# Altium footprint library MomentaryButton.PcbLib: 1 footprints
Each footprint in its own frame and in the unit in brackets; x right, y up, seen from the top. Pads: shape width x height; smd on the part's side, far side on the other; paste and mask are expansions set on the pad; w line width, h text height; cw(c..) or ccw(c..) is an arc to the next point about the centre after c.
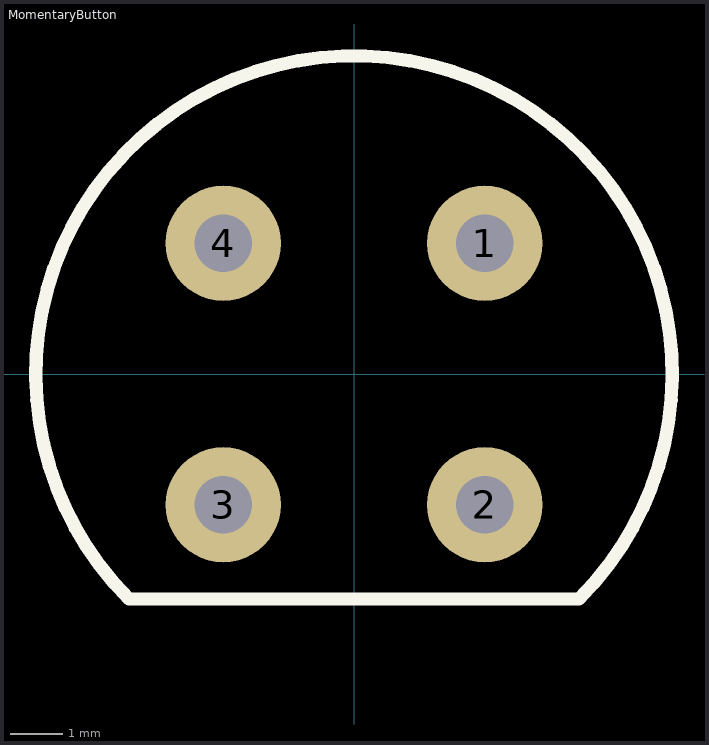
[diagram p0: the footprint, top view; thin cyan lines are the x and y axes]

## MomentaryButton [mm]
pads (4):
  round 2.2 hole 1.1: 1(2.5,2.5) 2(2.5,-2.5) 3(-2.5,-2.5) 4(-2.5,2.5)
Top Overlay:
  lines w0.254: -4.301,-4.301 cw(c0,0) 4.301,-4.301 -4.301,-4.301
3D body "Momentary Push-button.STEP": height 14.3, standoff -3.5, extent -6,-5.4 6,6